# Altium footprint library RES_10W.PcbLib: 1 footprints
Each footprint in its own frame and in the unit in brackets; x right, y up, seen from the top. Pads: shape width x height; smd on the part's side, far side on the other; paste and mask are expansions set on the pad; w line width, h text height; cw(c..) or ccw(c..) is an arc to the next point about the centre after c.
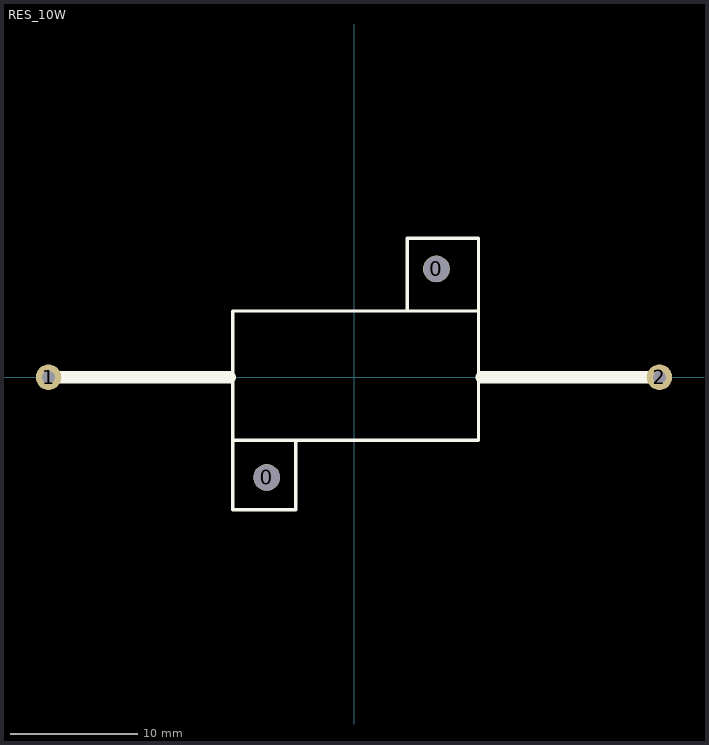
[diagram p0: the footprint, top view; thin cyan lines are the x and y axes]

## RES_10W [mm]
pads (4):
  round 2.1 hole 2.05: 0(-6.858,-7.874) 0(6.477,8.509)
  round 2 hole 1: 1(-24.003,0) 2(24.003,0)
Top Overlay:
  lines w0.254: -9.525,-4.953 9.779,-4.953 9.779,5.207 ; -9.525,-4.953 -9.525,5.207 9.779,5.207 ; -9.525,-4.953 -4.572,-4.953 -4.572,-10.414 -9.525,-10.414 -9.525,-4.953 ; 9.779,5.207 4.191,5.207 4.191,10.922 9.779,10.922 9.779,5.207
  lines w1: -24.003,0 -9.779,0 ; 10.033,0 24.003,0
3D body "10W 330RJ.STEP": height 10.08, standoff -0.92, extent -24.425,-10.45 24.425,11.101